# Altium schematic symbol library SCH - DIODES - SCHOTTKY_BAS40-04.SCHLIB: 1 symbol
Pins are listed as number, name and electrical type; pins without a type are passive.

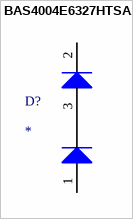
[diagram p0: symbol BAS4004E6327HTSA1]

## BAS4004E6327HTSA1
designator D?
Schottky Diode; Manufacturer_Name: Infineon; Manufacturer_Part_Number: BAS4004E6327HTSA1; Description: Infineon 40V 120mA; Datasheet Link: https://www.infineon.com/dgdl/Infineon-BAS40series.-DataSheet-v01_00-EN.pdf?fileId=5546d4626d66c2b1016d73f7e0bb20ca; Height: 1.1mm; Mouser Part Number: 726-BAS4004E6327HTSA; Mouser Price/Stock: https://www.mouser.co.uk/ProductDetail/Infineon-Technologies/BAS4004E6327HTSA1?qs=K00xGehIljuwVZw3g3Y%252BHA%3D%3D; Arrow Part Number: BAS4004E6327HTSA1; Arrow Price/Stock: https://www.arrow.com/en/products/bas4004e6327htsa1/infineon-technologies-ag?region=nac
footprint SOT95P240X110-3N
pins: 1 A, 2 K, 3 K, 3 K